# EAGLE library part TRAM-1 (library Transputer)
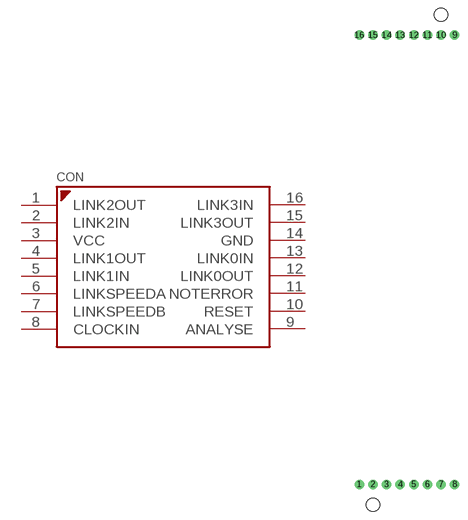
[diagram p0: symbol with the pads of TRAM-1-MB; footprint TRAM-1-MB]

Designator prefix CON

## TRAM-1  [TRAM-1-MB]
1  LINK2OUT  out
2  LINK2IN  in
3  VCC  pwr
4  LINK1OUT  out
5  LINK1IN  in
6  LINKSPEEDA  in
7  LINKSPEEDB  in
8  CLOCKIN  in
9  ANALYSE  in
10  RESET  in
11  NOTERROR  oc
12  LINK0OUT  out
13  LINK0IN  in
14  GND  pwr
15  LINK3OUT  out
16  LINK3IN  in

## Footprint TRAM-1-MB (pad centres in mm)
drill 1.1 pad 1.778: 1 0,0; 2 2.54,0; 3 5.08,0; 4 7.62,0; 5 10.16,0; 6 12.7,0; 7 15.24,0; 8 17.78,0; 9 17.78,83.82; 10 15.24,83.82; 11 12.7,83.82; 12 10.16,83.82; 13 7.62,83.82; 14 5.08,83.82; 15 2.54,83.82; 16 0,83.82
hole 2.5 at 2.54,-3.81
hole 2.5 at 15.24,87.63